# Altium schematic symbol library SCH - MCU - STM32 - ST MICROELECTRONICS STM32F302V(B-C)TX LQFP100.SchLib: 1 symbol
Pins are listed as number, name and electrical type; pins without a type are passive.

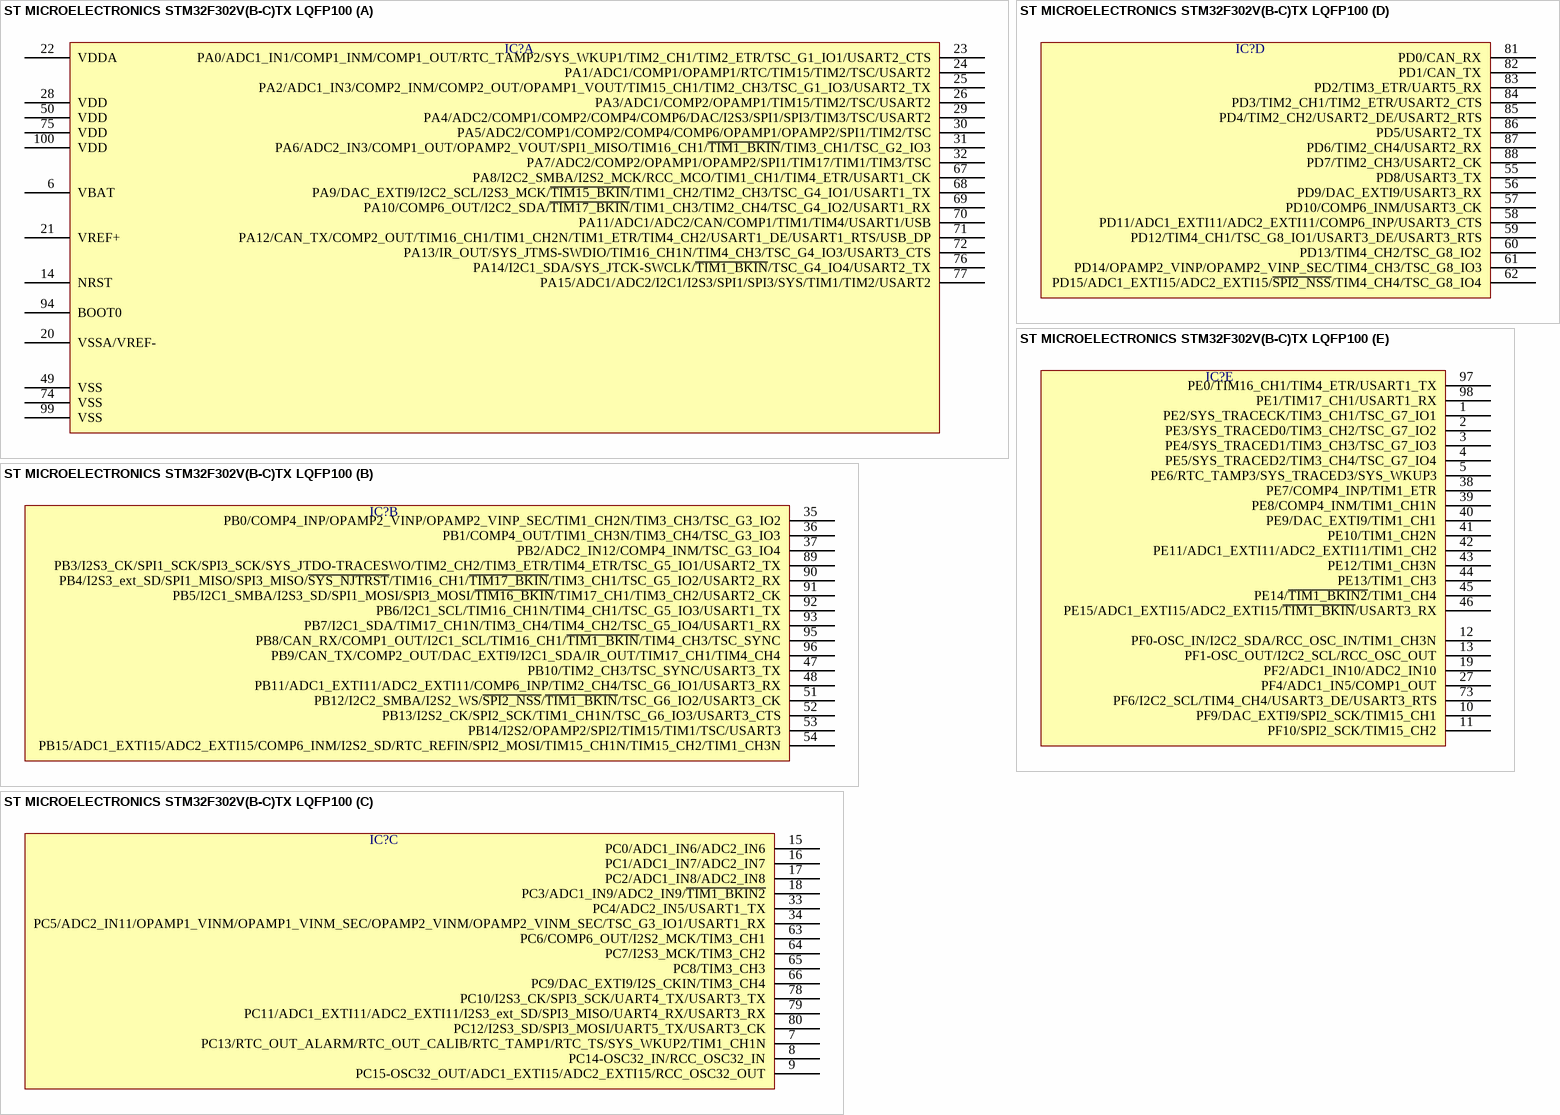
[diagram p0: symbol ST MICROELECTRONICS STM32F302V(B-C)TX LQFP100]

## ST MICROELECTRONICS STM32F302V(B-C)TX LQFP100
designator IC?  (value not drawn)
part A pins: 6 VBAT, 14 NRST, 20 VSSA/VREF-, 21 VREF+, 22 VDDA, 23 PA0/ADC1_IN1/COMP1_INM/COMP1_OUT/RTC_TAMP2/SYS_WKUP1/TIM2_CH1/TIM2_ETR/TSC_G1_IO1/USART2_CTS, 24 PA1/ADC1/COMP1/OPAMP1/RTC/TIM15/TIM2/TSC/USART2, 25 PA2/ADC1_IN3/COMP2_INM/COMP2_OUT/OPAMP1_VOUT/TIM15_CH1/TIM2_CH3/TSC_G1_IO3/USART2_TX, 26 PA3/ADC1/COMP2/OPAMP1/TIM15/TIM2/TSC/USART2, 28 VDD, 29 PA4/ADC2/COMP1/COMP2/COMP4/COMP6/DAC/I2S3/SPI1/SPI3/TIM3/TSC/USART2, 30 PA5/ADC2/COMP1/COMP2/COMP4/COMP6/OPAMP1/OPAMP2/SPI1/TIM2/TSC, 31 PA6/ADC2_IN3/COMP1_OUT/OPAMP2_VOUT/SPI1_MISO/TIM16_CH1/~{TIM1_BKIN}/TIM3_CH1/TSC_G2_IO3, 32 PA7/ADC2/COMP2/OPAMP1/OPAMP2/SPI1/TIM17/TIM1/TIM3/TSC, 49 VSS, 50 VDD, 67 PA8/I2C2_SMBA/I2S2_MCK/RCC_MCO/TIM1_CH1/TIM4_ETR/USART1_CK, 68 PA9/DAC_EXTI9/I2C2_SCL/I2S3_MCK/~{TIM15_BKIN}/TIM1_CH2/TIM2_CH3/TSC_G4_IO1/USART1_TX, 69 PA10/COMP6_OUT/I2C2_SDA/~{TIM17_BKIN}/TIM1_CH3/TIM2_CH4/TSC_G4_IO2/USART1_RX, 70 PA11/ADC1/ADC2/CAN/COMP1/TIM1/TIM4/USART1/USB, 71 PA12/CAN_TX/COMP2_OUT/TIM16_CH1/TIM1_CH2N/TIM1_ETR/TIM4_CH2/USART1_DE/USART1_RTS/USB_DP, 72 PA13/IR_OUT/SYS_JTMS-SWDIO/TIM16_CH1N/TIM4_CH3/TSC_G4_IO3/USART3_CTS, 74 VSS, 75 VDD, 76 PA14/I2C1_SDA/SYS_JTCK-SWCLK/~{TIM1_BKIN}/TSC_G4_IO4/USART2_TX, 77 PA15/ADC1/ADC2/I2C1/I2S3/SPI1/SPI3/SYS/TIM1/TIM2/USART2, 94 BOOT0, 99 VSS, 100 VDD
part B pins: 35 PB0/COMP4_INP/OPAMP2_VINP/OPAMP2_VINP_SEC/TIM1_CH2N/TIM3_CH3/TSC_G3_IO2, 36 PB1/COMP4_OUT/TIM1_CH3N/TIM3_CH4/TSC_G3_IO3, 37 PB2/ADC2_IN12/COMP4_INM/TSC_G3_IO4, 47 PB10/TIM2_CH3/TSC_SYNC/USART3_TX, 48 PB11/ADC1_EXTI11/ADC2_EXTI11/COMP6_INP/TIM2_CH4/TSC_G6_IO1/USART3_RX, 51 PB12/I2C2_SMBA/I2S2_WS/~{SPI2_NSS}/~{TIM1_BKIN}/TSC_G6_IO2/USART3_CK, 52 PB13/I2S2_CK/SPI2_SCK/TIM1_CH1N/TSC_G6_IO3/USART3_CTS, 53 PB14/I2S2/OPAMP2/SPI2/TIM15/TIM1/TSC/USART3, 54 PB15/ADC1_EXTI15/ADC2_EXTI15/COMP6_INM/I2S2_SD/RTC_REFIN/SPI2_MOSI/TIM15_CH1N/TIM15_CH2/TIM1_CH3N, 89 PB3/I2S3_CK/SPI1_SCK/SPI3_SCK/SYS_JTDO-TRACESWO/TIM2_CH2/TIM3_ETR/TIM4_ETR/TSC_G5_IO1/USART2_TX, 90 PB4/I2S3_ext_SD/SPI1_MISO/SPI3_MISO/~{SYS_NJTRST}/TIM16_CH1/~{TIM17_BKIN}/TIM3_CH1/TSC_G5_IO2/USART2_RX, 91 PB5/I2C1_SMBA/I2S3_SD/SPI1_MOSI/SPI3_MOSI/~{TIM16_BKIN}/TIM17_CH1/TIM3_CH2/USART2_CK, 92 PB6/I2C1_SCL/TIM16_CH1N/TIM4_CH1/TSC_G5_IO3/USART1_TX, 93 PB7/I2C1_SDA/TIM17_CH1N/TIM3_CH4/TIM4_CH2/TSC_G5_IO4/USART1_RX, 95 PB8/CAN_RX/COMP1_OUT/I2C1_SCL/TIM16_CH1/~{TIM1_BKIN}/TIM4_CH3/TSC_SYNC, 96 PB9/CAN_TX/COMP2_OUT/DAC_EXTI9/I2C1_SDA/IR_OUT/TIM17_CH1/TIM4_CH4
part C pins: 7 PC13/RTC_OUT_ALARM/RTC_OUT_CALIB/RTC_TAMP1/RTC_TS/SYS_WKUP2/TIM1_CH1N, 8 PC14-OSC32_IN/RCC_OSC32_IN, 9 PC15-OSC32_OUT/ADC1_EXTI15/ADC2_EXTI15/RCC_OSC32_OUT, 15 PC0/ADC1_IN6/ADC2_IN6, 16 PC1/ADC1_IN7/ADC2_IN7, 17 PC2/ADC1_IN8/ADC2_IN8, 18 PC3/ADC1_IN9/ADC2_IN9/~{TIM1_BKIN2}, 33 PC4/ADC2_IN5/USART1_TX, 34 PC5/ADC2_IN11/OPAMP1_VINM/OPAMP1_VINM_SEC/OPAMP2_VINM/OPAMP2_VINM_SEC/TSC_G3_IO1/USART1_RX, 63 PC6/COMP6_OUT/I2S2_MCK/TIM3_CH1, 64 PC7/I2S3_MCK/TIM3_CH2, 65 PC8/TIM3_CH3, 66 PC9/DAC_EXTI9/I2S_CKIN/TIM3_CH4, 78 PC10/I2S3_CK/SPI3_SCK/UART4_TX/USART3_TX, 79 PC11/ADC1_EXTI11/ADC2_EXTI11/I2S3_ext_SD/SPI3_MISO/UART4_RX/USART3_RX, 80 PC12/I2S3_SD/SPI3_MOSI/UART5_TX/USART3_CK
part D pins: 55 PD8/USART3_TX, 56 PD9/DAC_EXTI9/USART3_RX, 57 PD10/COMP6_INM/USART3_CK, 58 PD11/ADC1_EXTI11/ADC2_EXTI11/COMP6_INP/USART3_CTS, 59 PD12/TIM4_CH1/TSC_G8_IO1/USART3_DE/USART3_RTS, 60 PD13/TIM4_CH2/TSC_G8_IO2, 61 PD14/OPAMP2_VINP/OPAMP2_VINP_SEC/TIM4_CH3/TSC_G8_IO3, 62 PD15/ADC1_EXTI15/ADC2_EXTI15/~{SPI2_NSS}/TIM4_CH4/TSC_G8_IO4, 81 PD0/CAN_RX, 82 PD1/CAN_TX, 83 PD2/TIM3_ETR/UART5_RX, 84 PD3/TIM2_CH1/TIM2_ETR/USART2_CTS, 85 PD4/TIM2_CH2/USART2_DE/USART2_RTS, 86 PD5/USART2_TX, 87 PD6/TIM2_CH4/USART2_RX, 88 PD7/TIM2_CH3/USART2_CK
part E pins: 1 PE2/SYS_TRACECK/TIM3_CH1/TSC_G7_IO1, 2 PE3/SYS_TRACED0/TIM3_CH2/TSC_G7_IO2, 3 PE4/SYS_TRACED1/TIM3_CH3/TSC_G7_IO3, 4 PE5/SYS_TRACED2/TIM3_CH4/TSC_G7_IO4, 5 PE6/RTC_TAMP3/SYS_TRACED3/SYS_WKUP3, 10 PF9/DAC_EXTI9/SPI2_SCK/TIM15_CH1, 11 PF10/SPI2_SCK/TIM15_CH2, 12 PF0-OSC_IN/I2C2_SDA/RCC_OSC_IN/TIM1_CH3N, 13 PF1-OSC_OUT/I2C2_SCL/RCC_OSC_OUT, 19 PF2/ADC1_IN10/ADC2_IN10, 27 PF4/ADC1_IN5/COMP1_OUT, 38 PE7/COMP4_INP/TIM1_ETR, 39 PE8/COMP4_INM/TIM1_CH1N, 40 PE9/DAC_EXTI9/TIM1_CH1, 41 PE10/TIM1_CH2N, 42 PE11/ADC1_EXTI11/ADC2_EXTI11/TIM1_CH2, 43 PE12/TIM1_CH3N, 44 PE13/TIM1_CH3, 45 PE14/~{TIM1_BKIN2}/TIM1_CH4, 46 PE15/ADC1_EXTI15/ADC2_EXTI15/~{TIM1_BKIN}/USART3_RX, 73 PF6/I2C2_SCL/TIM4_CH4/USART3_DE/USART3_RTS, 97 PE0/TIM16_CH1/TIM4_ETR/USART1_TX, 98 PE1/TIM17_CH1/USART1_RX